# Altium footprint library TO254P1435X457-4N.PcbLib: 1 footprints
Each footprint in its own frame and in the unit in brackets; x right, y up, seen from the top. Pads: shape width x height; smd on the part's side, far side on the other; paste and mask are expansions set on the pad; w line width, h text height; cw(c..) or ccw(c..) is an arc to the next point about the centre after c.
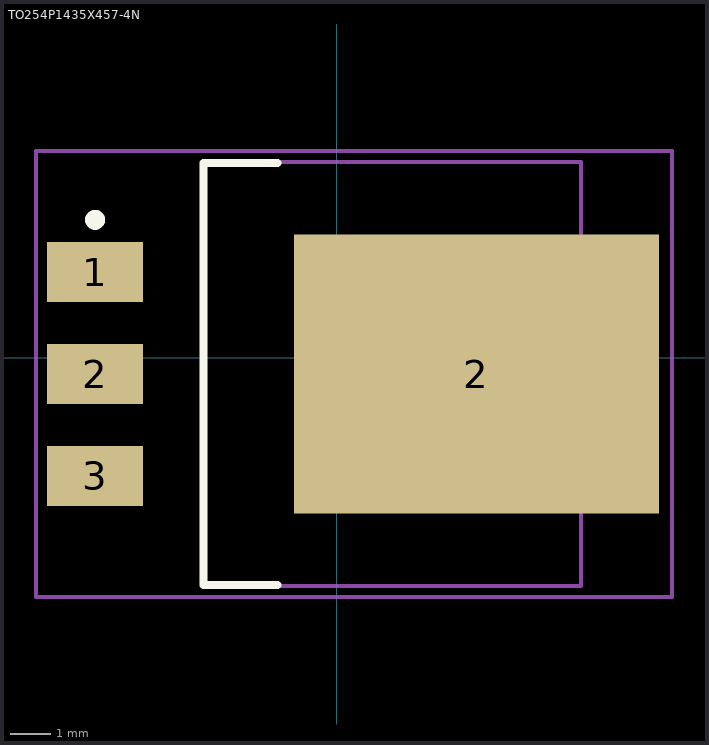
[diagram p0: the footprint, top view; thin cyan lines are the x and y axes]

## TO254P1435X457-4N [mm]
pads (4):
  rect 2.4x1.5 smd: 1(-6.023,2.14) 2(-6.023,-0.4) 3(-6.023,-2.94)
  rect 9.1x6.95 smd: 2(3.477,-0.4)
Top Overlay:
  circle w0.25: c-6.023,3.44 r0.125
  lines w0.2: -1.473,-5.65 -3.323,-5.65 -3.323,4.85 -1.473,4.85
Mechanical 13:
  lines w0.1: -3.323,-5.675 -3.323,4.875 6.077,4.875 6.077,-5.675 -3.323,-5.675
Mechanical 15:
  lines w0.1: -0.073,-0.4 0.927,-0.4 ; 0.427,-0.9 0.427,0.1 ; -7.498,-5.95 -7.498,5.15 8.352,5.15 8.352,-5.95 -7.498,-5.95
3D body: height 4.57, standoff 0.33, extent -3.323,-5.675 6.077,4.875